# Altium schematic symbol library Schlib1.SchLib: 1 symbol
Pins are listed as number, name and electrical type; pins without a type are passive.

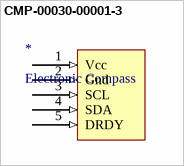
[diagram p0: symbol CMP-00030-00001-3]

## CMP-00030-00001-3
designator *, comment Electronic Compass
Electronic Compass GY271 HMC5883L
footprint Electronic Compass-Footprint-1
pins: 1 Vcc (in), 2 Gnd (in), 3 SCL (in), 4 SDA (in), 5 DRDY (in)